# EAGLE library part DIP-YELLOW-MALE-HEADER-VERT(14P-2.54) (library Seeed-OPL-Connector)
320020123
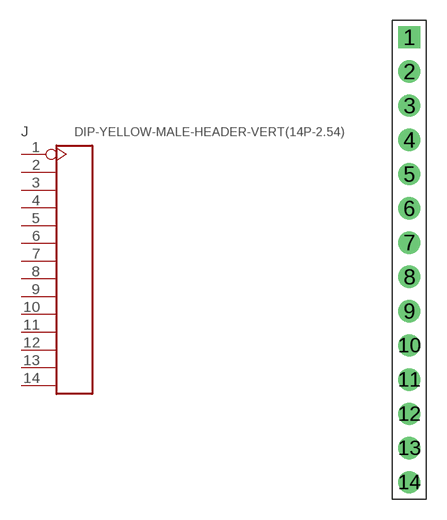
[diagram p86: symbol with the pads of H14-2.54; footprint H14-2.54]

Designator prefix J

## DIP-YELLOW-MALE-HEADER-VERT(14P-2.54) (MPN: P125-1114A0BS116AX; VALUE: 14p-2.54)  [H14-2.54]
1  1
2  2
3  3
4  4
5  5
6  6
7  7
8  8
9  9
10  10
11  11
12  12
13  13
14  14

## Footprint H14-2.54 (pad centres in mm)
drill 0.889 pad 1.651 square: 1 0,16.51
drill 0.889 pad 1.651: 2 0,13.97; 3 0,11.43; 4 0,8.89; 5 0,6.35; 6 0,3.81; 7 0,1.27; 8 0,-1.27; 9 0,-3.81; 10 0,-6.35; 11 0,-8.89; 12 0,-11.43; 13 0,-13.97; 14 0,-16.51